# Altium integrated library FS8205A.IntLib: 1 symbol
Pins are listed as number, name and electrical type; pins without a type are passive.

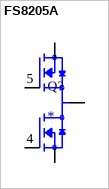
[diagram p0: symbol FS8205A]

## FS8205A
designator Q?
N/A; MP: FS8205A; Availability: Unavailable; Package: None; Value: *; Price: None
footprint SOP65P640X120-8N
pins: 1 D12, 2 S1, 3 S1, 4 G1, 5 G2, 6 S2, 7 S2, 8 D12